# Altium schematic symbol library TPMP1470GJ-Z.SchLib: 1 symbol
Pins are listed as number, name and electrical type; pins without a type are passive.

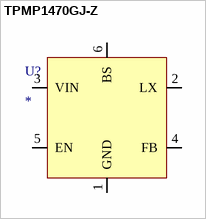
[diagram p0: symbol TPMP1470GJ-Z]

## TPMP1470GJ-Z
designator U?
Value: *
pins: 1 GND, 2 LX, 3 VIN, 4 FB, 5 EN, 6 BS